# EAGLE library part 1P8T (library mb3_switches)
1P-8T
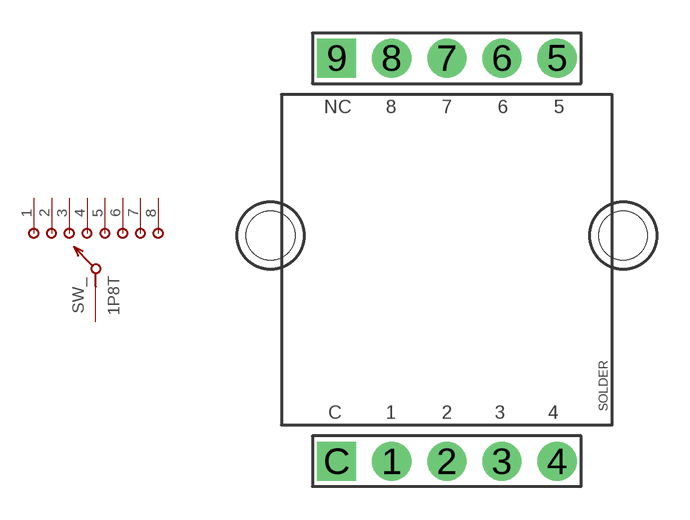
[diagram p0: symbol with the pads of SR1712F; footprint SR1712F]

Designator prefix SW_

## 1P8T  [SR1712F]
1  1
2  2
3  3
4  4
5  5
6  6
7  7
8  8
C  A

## Footprint SR1712F (pad centres in mm)
1P-8T Alpha SR1712F-0108 http://www.mouser.com/ProductDetail/Alpha-Taiwan/SR1712F-0108-20F0A-N9-N-027/?qs=sGAEpiMZZMvNbjZ2WlReYnXCw5Ewy7NZqvxA5I%2fimkc%3d 2P-4T Alpha SR1712F-0204 http://www.mouser.com/ProductDetail/Alpha-Taiwan/SR1712F-0204-20F0A-N9-N-027/?qs=sGAEpiMZZMvNbjZ2WlReYnXCw5Ewy7NZBfCUQUEQcxM%3d
drill 1 pad 1.778: 1 -2.5,-9.15; 2 0,-9.15; 3 2.5,-9.15; 4 5,-9.15; 5 5,9.15; 6 2.5,9.15; 7 0,9.15; 8 -2.5,9.15
drill 1 pad 1.778 square: 9 -5,9.15; C -5,-9.15
hole 2.2 at 8,1.1
hole 2.2 at -8,1.1